# EAGLE library part MC14511B (library Backoffice Library)
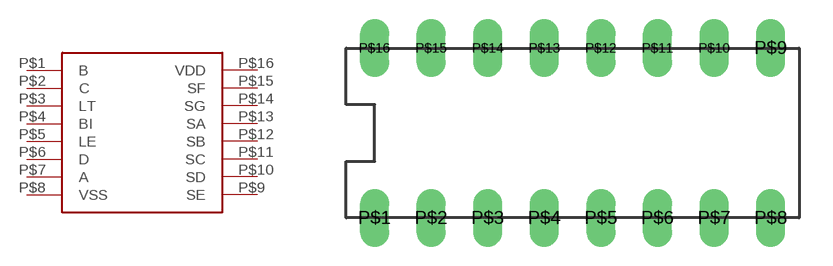
[diagram p2: symbol with the pads of DIL16; footprint DIL16]

Designator prefix -

## MC14511B  [DIL16]
P$1  B
P$2  C
P$3  LT
P$4  BI
P$5  LE
P$6  D
P$7  A
P$8  VSS
P$9  SE
P$10  SD
P$11  SC
P$12  SB
P$13  SA
P$14  SG
P$15  SF
P$16  VDD

## Footprint DIL16 (pad centres in mm)
drill 0.8 long: P$1 -3.81,-3.81; P$2 -1.27,-3.81; P$3 1.27,-3.81; P$4 3.81,-3.81; P$5 6.35,-3.81; P$6 8.89,-3.81; P$7 11.43,-3.81; P$8 13.97,-3.81; P$9 13.97,3.81; P$10 11.43,3.81; P$11 8.89,3.81; P$12 6.35,3.81; P$13 3.81,3.81; P$14 1.27,3.81; P$15 -1.27,3.81; P$16 -3.81,3.81